# Altium schematic symbol library Schlib1.SchLib: 28 symbols
Pins are listed as number, name and electrical type; pins without a type are passive.

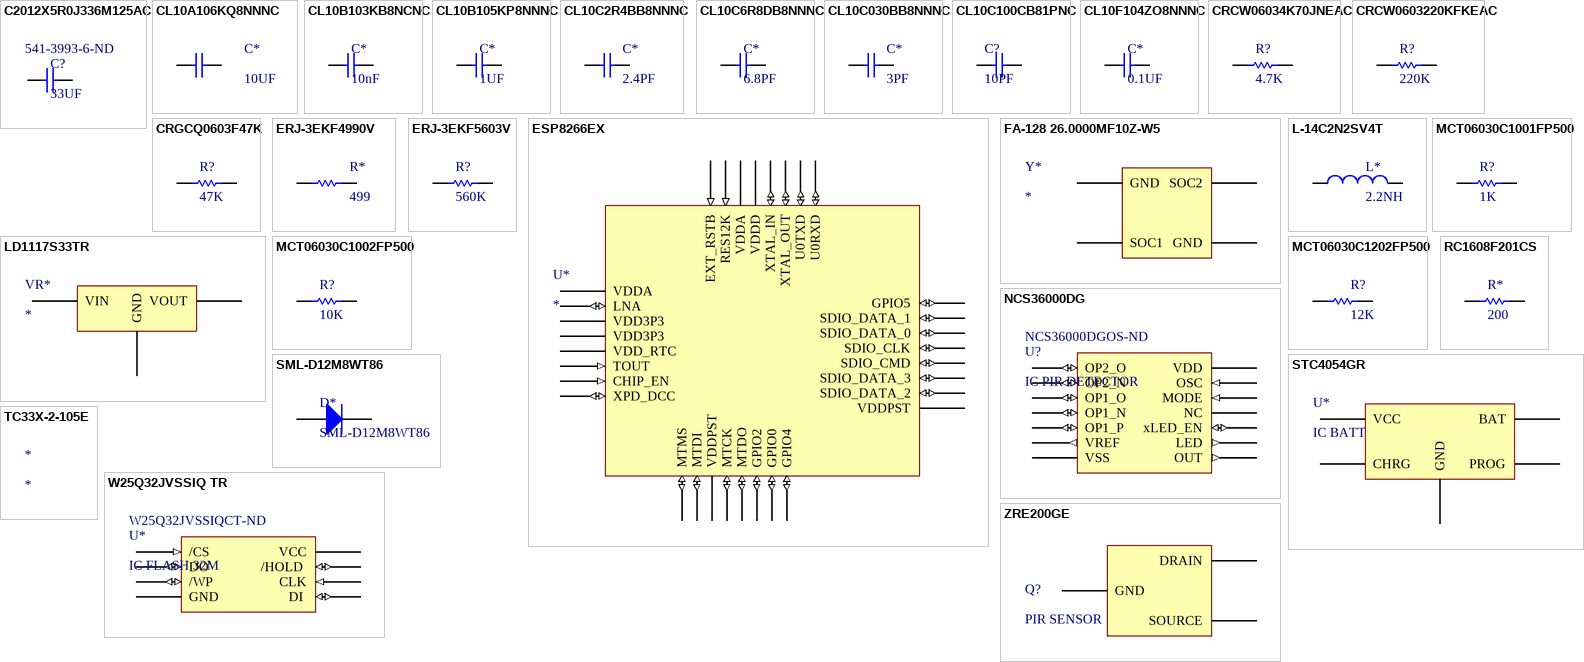
[diagram p0: symbols C2012X5R0J336M125AC to ZRE200GE]

## C2012X5R0J336M125AC
designator C?, comment 33UF  Supplier Part Number 2: 541-3993-6-ND
CAP CER 33UF 6.3V X5R 0805; Manufacturer: TDK Corporation; Manufacturer Part Number: C2012X5R0J336M125AC; Tolerance: ±20%; Notification: Current market demand for these product types have resulted in fluctuating and extending lead times. Lead times may differ.; Supplier 1: Digi-Key; RoHS: RoHS Compliant; Category: Capacitors; Stock 1: 20000; Pricing 1: 1=0.86, 10=0.654, 100=0.4676, 500=0.362, 1000=0.31172 (EUR); Packaging: Digi-Reel®; Part Status: Active; Voltage - Rated: 6.3V; Temperature Coefficient: X5R; Operating Temperature: -55°C ~ 85°C; Features: Low ESL; Ratings: -; Applications: General Purpose; Failure Rate: -; Mounting Type: Surface Mount, MLCC; Package / Case: 0805 (2012 Metric); Size / Dimension: 0.079" L x 0.049" W (2.00mm x 1.25mm); Height - Seated (Max): -; Thickness (Max): 0.057" (1.45mm); Lead Spacing: -; Lead Style: -; ComponentLink1URL: https://product.tdk.com/info/en/catalog/datasheets/mlcc_commercial_general_en.pdf; ComponentLink1Description: https://product.tdk.com/info/en/catalog/datasheets/mlcc_commercial_general_en.pdf; Supplier Part Number 1: 445-5986-6-ND; Supplier 2: Digi-Key
footprint Chip2PinSM127P600-8N-TDK_0603
pins: 1, 2

## CL10A106KQ8NNNC
designator C*, comment 10UF
CAP CER 10UF 6.3V X5R 0603; Manufacturer: Samsung Electro-Mechanics; Manufacturer Part Number: CL10A106KQ8NNNC; Tolerance: ±10%; Notification: Current market demand for these product types have resulted in fluctuating and extending lead times. Lead times may differ.; Supplier 1: Digi-Key; RoHS: RoHS Compliant; Category: Capacitors; Stock 1: 40000; Pricing 1: 1=0.25, 10=0.177, 100=0.1001, 500=0.07064, 1000=0.0618 (EUR); Packaging: Cut Tape (CT); Part Status: Active; Voltage - Rated: 6.3V; Temperature Coefficient: X5R; Operating Temperature: -55°C ~ 85°C; Features: -; Ratings: -; Applications: General Purpose; Mounting Type: Surface Mount, MLCC; Package / Case: 0603 (1608 Metric); Size / Dimension: 0.063" L x 0.031" W (1.60mm x 0.80mm); Height - Seated (Max): -; Thickness (Max): 0.035" (0.90mm); Lead Spacing: -; Lead Style: -; ComponentLink1URL: http://www.samsungsem.com/kr/support/product-search/mlcc/CL10A106KQ8NNNC.jsp; ComponentLink1Description: http://www.samsungsem.com/kr/support/product-search/mlcc/CL10A106KQ8NNNC.jsp; Supplier Part Number 1: 1276-1038-1-ND
footprint Chip2PinSM127P600-8N-SAMSUNG-0603
pins: 1, 2

## CL10B103KB8NCNC
designator C*, comment 10nF
CAP CER 10000PF 50V X7R 0603; Manufacturer: Samsung Electro-Mechanics; Manufacturer Part Number: CL10B103KB8NCNC; Tolerance: ±10%; Supplier 1: Digi-Key; RoHS: RoHS Compliant; Category: Capacitors; Stock 1: 1066876; Pricing 1: 1=0.09, 10=0.029, 100=0.0129, 500=0.00926, 1000=0.00728 (EUR); Packaging: Cut Tape (CT); Part Status: Active; Voltage - Rated: 50V; Temperature Coefficient: X7R; Operating Temperature: -55°C ~ 125°C; Features: -; Ratings: -; Applications: General Purpose; Mounting Type: Surface Mount, MLCC; Package / Case: 0603 (1608 Metric); Size / Dimension: 0.063" L x 0.031" W (1.60mm x 0.80mm); Height - Seated (Max): -; Thickness (Max): 0.035" (0.90mm); Lead Spacing: -; Lead Style: -; ComponentLink1URL: http://www.samsungsem.com/kr/support/product-search/mlcc/CL10B103KB8NCNC.jsp; ComponentLink1Description: http://www.samsungsem.com/kr/support/product-search/mlcc/CL10B103KB8NCNC.jsp; Supplier Part Number 1: 1276-1921-1-ND
footprint Chip2PinSM127P600-8N-SAMSUNG-0603
pins: 1, 2

## CL10B105KP8NNNC
designator C*, comment 1UF
CAP CER 1UF 10V X7R 0603; Manufacturer: Samsung Electro-Mechanics; Manufacturer Part Number: CL10B105KP8NNNC; Tolerance: ±10%; Notification: Current market demand for these product types have resulted in fluctuating and extending lead times. Lead times may differ.; Supplier 1: Digi-Key; RoHS: RoHS Compliant; Category: Capacitors; Stock 1: 40000; Pricing 1: 1=0.08, 10=0.044, 100=0.0197, 500=0.01408, 1000=0.01106 (EUR); Packaging: Cut Tape (CT); Part Status: Active; Voltage - Rated: 10V; Temperature Coefficient: X7R; Operating Temperature: -55°C ~ 125°C; Features: -; Ratings: -; Applications: General Purpose; Mounting Type: Surface Mount, MLCC; Package / Case: 0603 (1608 Metric); Size / Dimension: 0.063" L x 0.031" W (1.60mm x 0.80mm); Height - Seated (Max): -; Thickness (Max): 0.035" (0.90mm); Lead Spacing: -; Lead Style: -; ComponentLink1URL: http://www.samsungsem.com/kr/support/product-search/mlcc/CL10B105KP8NNNC.jsp; ComponentLink1Description: http://www.samsungsem.com/kr/support/product-search/mlcc/CL10B105KP8NNNC.jsp; Supplier Part Number 1: 1276-1946-1-ND
footprint Chip2PinSM127P600-8N-SAMSUNG-0603
pins: 1, 2

## CL10C2R4BB8NNNC
designator C*, comment 2.4PF
CAP CER 2.4PF 50V C0G/NP0 0603; Manufacturer: Samsung Electro-Mechanics; Manufacturer Part Number: CL10C2R4BB8NNNC; Tolerance: ±0.1pF; Temperature Coefficient: C0G, NP0; Notification: Current market demand for these product types have resulted in fluctuating and extending lead times. Lead times may differ.; Supplier 1: Digi-Key; RoHS: RoHS Compliant; Category: Capacitors; Stock 1: 40000; Pricing 1: 1=0.08, 10=0.034, 100=0.0151, 500=0.01074, 1000=0.00844 (EUR); Packaging: Cut Tape (CT); Part Status: Active; Voltage - Rated: 50V; Operating Temperature: -55°C ~ 125°C; Features: -; Ratings: -; Applications: General Purpose; Mounting Type: Surface Mount, MLCC; Package / Case: 0603 (1608 Metric); Size / Dimension: 0.063" L x 0.031" W (1.60mm x 0.80mm); Height - Seated (Max): -; Thickness (Max): 0.035" (0.90mm); Lead Spacing: -; Lead Style: -; ComponentLink1URL: http://www.samsungsem.com/kr/support/product-search/mlcc/CL10C2R4BB8NNNC.jsp; ComponentLink1Description: http://www.samsungsem.com/kr/support/product-search/mlcc/CL10C2R4BB8NNNC.jsp; Supplier Part Number 1: 1276-2254-1-ND
footprint Chip2PinSM127P600-8N-SAMSUNG-0603
pins: 1, 2

## CL10C6R8DB8NNNC
designator C*, comment 6.8PF
CAP CER 6.8PF 50V C0G/NP0 0603; Manufacturer: Samsung Electro-Mechanics; Manufacturer Part Number: CL10C6R8DB8NNNC; Tolerance: ±0.5pF; Temperature Coefficient: C0G, NP0; Notification: Current market demand for these product types have resulted in fluctuating and extending lead times. Lead times may differ.; Supplier 1: Digi-Key; RoHS: RoHS Compliant; Category: Capacitors; Stock 1: 40000; Pricing 1: 1=0.08, 10=0.039, 100=0.0174, 500=0.01244, 1000=0.00978 (EUR); Packaging: Cut Tape (CT); Part Status: Active; Voltage - Rated: 50V; Operating Temperature: -55°C ~ 125°C; Features: -; Ratings: -; Applications: General Purpose; Mounting Type: Surface Mount, MLCC; Package / Case: 0603 (1608 Metric); Size / Dimension: 0.063" L x 0.031" W (1.60mm x 0.80mm); Height - Seated (Max): -; Thickness (Max): 0.035" (0.90mm); Lead Spacing: -; Lead Style: -; ComponentLink1URL: http://www.samsungsem.com/kr/support/product-search/mlcc/CL10C6R8DB8NNNC.jsp; ComponentLink1Description: http://www.samsungsem.com/kr/support/product-search/mlcc/CL10C6R8DB8NNNC.jsp; Supplier Part Number 1: 1276-2334-1-ND
footprint Chip2PinSM127P600-8N-TDK_0603
pins: 1, 2

## CL10C030BB8NNNC
designator C*, comment 3PF
CAP CER 3PF 50V C0G/NP0 0603; Manufacturer: Samsung Electro-Mechanics; Manufacturer Part Number: CL10C030BB8NNNC; Tolerance: ±0.1pF; Temperature Coefficient: C0G, NP0; Notification: Current market demand for these product types have resulted in fluctuating and extending lead times. Lead times may differ.; Supplier 1: Digi-Key; RoHS: RoHS Compliant; Category: Capacitors; Stock 1: 40000; Pricing 1: 1=0.08, 10=0.026, 100=0.0116, 500=0.00826, 1000=0.00649 (EUR); Packaging: Cut Tape (CT); Part Status: Active; Voltage - Rated: 50V; Operating Temperature: -55°C ~ 125°C; Features: -; Ratings: -; Applications: General Purpose; Mounting Type: Surface Mount, MLCC; Package / Case: 0603 (1608 Metric); Size / Dimension: 0.063" L x 0.031" W (1.60mm x 0.80mm); Height - Seated (Max): -; Thickness (Max): 0.035" (0.90mm); Lead Spacing: -; Lead Style: -; ComponentLink1URL: http://www.samsungsem.com/kr/support/product-search/mlcc/CL10C030BB8NNNC.jsp; ComponentLink1Description: http://www.samsungsem.com/kr/support/product-search/mlcc/CL10C030BB8NNNC.jsp; Supplier Part Number 1: 1276-2125-1-ND
footprint Chip2PinSM127P600-8N-TDK_0603
pins: 1, 2

## CL10C100CB81PNC
designator C?, comment 10PF
CAP CER 10PF 50V C0G/NP0 0603; Manufacturer: Samsung Electro-Mechanics; Manufacturer Part Number: CL10C100CB81PNC; Tolerance: ±0.25pF; Temperature Coefficient: C0G, NP0; Supplier 1: Digi-Key; RoHS: RoHS Compliant; Category: Capacitors; Stock 1: 40000; Pricing 1: 1=0.1, 10=0.076, 100=0.0339, 500=0.02424, 1000=0.01904 (EUR); Packaging: Cut Tape (CT); Part Status: Active; Voltage - Rated: 50V; Operating Temperature: -55°C ~ 125°C; Features: -; Ratings: AEC-Q200; Applications: Automotive; Mounting Type: Surface Mount, MLCC; Package / Case: 0603 (1608 Metric); Size / Dimension: 0.063" L x 0.031" W (1.60mm x 0.80mm); Height - Seated (Max): -; Thickness (Max): 0.035" (0.90mm); Lead Spacing: -; Lead Style: -; ComponentLink1URL: http://www.samsungsem.com/kr/support/product-search/mlcc/CL10C100CB81PNC.jsp; ComponentLink1Description: http://www.samsungsem.com/kr/support/product-search/mlcc/CL10C100CB81PNC.jsp; Supplier Part Number 1: 1276-2149-1-ND
footprint Chip2PinSM127P600-8N-SAMSUNG-0603
pins: 1, 2

## CL10F104ZO8NNNC
designator C*, comment 0.1UF
CAP CER 0.1UF 16V Y5V 0603; Manufacturer: Samsung Electro-Mechanics; Manufacturer Part Number: CL10F104ZO8NNNC; Tolerance: -20%, +80%; Temperature Coefficient: Y5V (F); Notification: Current market demand for these product types have resulted in fluctuating and extending lead times. Lead times may differ.; Supplier 1: Digi-Key; RoHS: RoHS Compliant; Category: Capacitors; Stock 1: 40000; Pricing 1: 1=0.08, 10=0.032, 100=0.0144, 500=0.01026, 1000=0.00806 (EUR); Packaging: Cut Tape (CT); Part Status: Active; Voltage - Rated: 16V; Operating Temperature: -30°C ~ 85°C; Features: -; Ratings: -; Applications: General Purpose; Mounting Type: Surface Mount, MLCC; Package / Case: 0603 (1608 Metric); Size / Dimension: 0.063" L x 0.031" W (1.60mm x 0.80mm); Height - Seated (Max): -; Thickness (Max): 0.035" (0.90mm); Lead Spacing: -; Lead Style: -; ComponentLink1URL: http://www.samsungsem.com/kr/support/product-search/mlcc/CL10F104ZO8NNNC.jsp; ComponentLink1Description: http://www.samsungsem.com/kr/support/product-search/mlcc/CL10F104ZO8NNNC.jsp; Supplier Part Number 1: 1276-1258-1-ND
footprint Chip2PinSM127P600-8N-SAMSUNG-0603
pins: 1, 2

## CRCW06034K70JNEAC
designator R?, comment 4.7K
RES SMD 4.7K OHM 5% 1/10W 0603; Manufacturer: Vishay Dale; Manufacturer Part Number: CRCW06034K70JNEAC; Power (Watts): 0.1W, 1/10W; Temperature Coefficient: ±200ppm/°C; Supplier 1: Digi-Key; RoHS: RoHS Compliant; Category: Resistors; Stock 1: 819006; Pricing 1: 1=0.09, 10=0.019, 100=0.008, 1000=0.00357, 2500=0.0031 (EUR); Packaging: Digi-Reel®; Part Status: Active; Tolerance: ±5%; Composition: Thick Film; Features: -; Operating Temperature: -55°C ~ 155°C; Package / Case: 0603 (1608 Metric); Supplier Device Package: 0603; Height - Seated (Max): 0.022" (0.55mm); Failure Rate: -; ComponentLink1URL: http://www.vishay.com/docs/28773/crcwce3.pdf; ComponentLink1Description: http://www.vishay.com/docs/28773/crcwce3.pdf; Supplier Part Number 1: 541-3993-6-ND
footprint Chip2PinSM127P600-8N-vishay-0603
pins: 1, 2

## CRCW0603220KFKEAC
designator R?, comment 220K
RES SMD 220K OHM 1% 1/10W 0603; Manufacturer: Vishay Dale; Manufacturer Part Number: CRCW0603220KFKEAC; Power (Watts): 0.1W, 1/10W; Temperature Coefficient: ±100ppm/°C; Supplier 1: Digi-Key; RoHS: RoHS Compliant; Category: Resistors; Stock 1: 154470; Pricing 1: 1=0.09, 10=0.026, 100=0.0108, 1000=0.00484, 2500=0.0042 (EUR); Packaging: Cut Tape (CT); Part Status: Active; Tolerance: ±1%; Composition: Thick Film; Features: -; Operating Temperature: -55°C ~ 155°C; Package / Case: 0603 (1608 Metric); Supplier Device Package: 0603; Height - Seated (Max): 0.022" (0.55mm); Failure Rate: -; ComponentLink1URL: http://www.vishay.com/docs/28773/crcwce3.pdf; ComponentLink1Description: http://www.vishay.com/docs/28773/crcwce3.pdf; Supplier Part Number 1: 541-4039-1-ND
footprint Chip2PinSM127P600-8N-vishay-0603
pins: 1, 2

## CRGCQ0603F47K
designator R?, comment 47K
CRGCQ 0603 47K 1%; Manufacturer: TE Connectivity Passive Product; Manufacturer Part Number: CRGCQ0603F47K; Power (Watts): 0.1W, 1/10W; Temperature Coefficient: ±100ppm/°C; Supplier 1: Digi-Key; RoHS: RoHS Compliant; Category: Resistors; Stock 1: 50; Pricing 1: 1=0.09, 10=0.026, 100=0.0106, 1000=0.00474, 2500=0.00411 (EUR); Packaging: Cut Tape (CT); Part Status: Active; Tolerance: ±1%; Composition: Thick Film; Features: Automotive AEC-Q200, Moisture Resistant; Operating Temperature: -55°C ~ 155°C; Package / Case: 0603 (1608 Metric); Supplier Device Package: 0603; Size / Dimension: 0.063" L x 0.031" W (1.60mm x 0.80mm); Height - Seated (Max): 0.022" (0.55mm); Failure Rate: -; ComponentLink1URL: https://www.te.com/commerce/DocumentDelivery/DDEController?Action=srchrtrv&DocNm=1773204-3&DocType=DS&DocLang=English; ComponentLink1Description: https://www.te.com/commerce/DocumentDelivery/DDEController?Action=srchrtrv&DocNm=1773204-3&DocType=DS&DocLang=English; Supplier Part Number 1: A129708CT-ND
footprint Chip2PinSM127P600-8N-0603-te
pins: 1, 2

## ERJ-3EKF4990V
designator R*, comment 499
RES SMD 499 OHM 1% 1/10W 0603; Manufacturer: Panasonic Electronic Components; Manufacturer Part Number: ERJ-3EKF4990V; Power (Watts): 0.1W, 1/10W; Temperature Coefficient: ±100ppm/°C; Supplier 1: Digi-Key; RoHS: RoHS Compliant; Category: Resistors; Stock 1: 1504774; Pricing 1: 1=0.08, 10=0.054, 100=0.0221, 1000=0.00994, 2500=0.00862 (EUR); Packaging: Cut Tape (CT); Part Status: Active; Tolerance: ±1%; Composition: Thick Film; Features: Automotive AEC-Q200; Operating Temperature: -55°C ~ 155°C; Package / Case: 0603 (1608 Metric); Supplier Device Package: 0603; Size / Dimension: 0.063" L x 0.032" W (1.60mm x 0.80mm); Height - Seated (Max): 0.022" (0.55mm); Failure Rate: -; ComponentLink1URL: https://industrial.panasonic.com/cdbs/www-data/pdf/RDA0000/AOA0000C304.pdf; ComponentLink1Description: https://industrial.panasonic.com/cdbs/www-data/pdf/RDA0000/AOA0000C304.pdf; Supplier Part Number 1: P499HCT-ND
footprint Chip2PinSM127P600-8N-Stackpole-0603
pins: 1, 2

## ERJ-3EKF5603V
designator R?, comment 560K
RES SMD 560K OHM 1% 1/10W 0603; Manufacturer: Panasonic Electronic Components; Manufacturer Part Number: ERJ-3EKF5603V; Power (Watts): 0.1W, 1/10W; Temperature Coefficient: ±100ppm/°C; Supplier 1: Digi-Key; RoHS: RoHS Compliant; Category: Resistors; Stock 1: 221508; Pricing 1: 1=0.09, 10=0.057, 100=0.0231, 1000=0.01037, 2500=0.009 (EUR); Packaging: Cut Tape (CT); Part Status: Active; Tolerance: ±1%; Composition: Thick Film; Features: Automotive AEC-Q200; Operating Temperature: -55°C ~ 155°C; Package / Case: 0603 (1608 Metric); Supplier Device Package: 0603; Size / Dimension: 0.063" L x 0.032" W (1.60mm x 0.80mm); Height - Seated (Max): 0.022" (0.55mm); Failure Rate: -; ComponentLink1URL: https://industrial.panasonic.com/cdbs/www-data/pdf/RDA0000/AOA0000C304.pdf; ComponentLink1Description: https://industrial.panasonic.com/cdbs/www-data/pdf/RDA0000/AOA0000C304.pdf; Supplier Part Number 1: P560KHCT-ND
footprint Chip2PinSM127P600-8N-Stackpole-0603
pins: 1, 2

## ESP8266EX
designator U*
SMD IC ESP8266EX, QFN32-PIN, 5_5; Manufacturer: Espressif Systems; RF Family/Standard: WiFi; Protocol: 802.11b/g/n; Frequency: 2.4GHz; Data Rate (Max): 54Mbps; Power - Output: 20dBm; Sensitivity: -91dBm; Serial Interfaces: I²C, I²S, SPI, UART; Voltage - Supply: 2.5 V ~ 3.6 V; Current - Receiving: 50mA ~ 56mA; Current - Transmitting: 120mA ~ 170mA; Supplier 1: Digi-Key; Manufacturer Part Number: ESP8266EX; RoHS: RoHS Compliant; Category: RF/IF and RFID; Stock 1: 2122; Pricing 1: 1=2.49, 10=2.222, 25=2, 100=1.8223, 250=1.64452, 500=1.47562 (EUR); Packaging: Cut Tape (CT); Part Status: Active; Type: TxRx + MCU; Modulation: -; Memory Size: -; Package / Case: 32-VFQFN Exposed Pad; ComponentLink1URL: https://espressif.com/sites/default/files/documentation/0a-esp8266ex_datasheet_en.pdf; ComponentLink1Description: https://espressif.com/sites/default/files/documentation/0a-esp8266ex_datasheet_en.pdf; Supplier Part Number 1: 1904-1001-1-ND
footprint QFN127P600-8N (ESP8266)
pins: 1 VDDA (power), 2 LNA (io), 3 VDD3P3 (power), 4 VDD3P3 (power), 5 VDD_RTC (power), 6 TOUT (in), 7 CHIP_EN (in), 8 XPD_DCC (io), 9 MTMS (io), 10 MTDI (io), 11 VDDPST (power), 12 MTCK (io), 13 MTDO (io), 14 GPIO2 (io), 15 GPIO0 (io), 16 GPIO4 (io), 17 VDDPST (power), 18 SDIO_DATA_2 (io), 19 SDIO_DATA_3 (io), 20 SDIO_CMD (io), 21 SDIO_CLK (io), 22 SDIO_DATA_0 (io), 23 SDIO_DATA_1 (io), 24 GPIO5 (io), 25 U0RXD (io), 26 U0TXD (io), 27 XTAL_OUT (io), 28 XTAL_IN (io), 29 VDDD (power), 30 VDDA (power), 31 RES12K (in), 32 EXT_RSTB (in)

## FA-128 26.0000MF10Z-W5
designator Y*
CRYSTAL 26.0000MHZ 12PF SMD; Manufacturer: EPSON; Manufacturer Part Number: FA-128 26.0000MF10Z-W5; Frequency Stability: ±10ppm; Operating Mode: Fundamental; Supplier 1: Digi-Key; RoHS: RoHS Compliant; Category: Crystals, Oscillators, Resonators; Stock 1: 200409; Pricing 1: 1=0.5, 10=0.419, 50=0.3772, 100=0.3353, 500=0.3185, 1000=0.2682 (EUR); Packaging: Cut Tape (CT); Part Status: Active; Type: MHz Crystal; Frequency Tolerance: ±10ppm; Load Capacitance: 12pF; Operating Temperature: -20°C ~ 75°C; Ratings: -; Mounting Type: Surface Mount; Package / Case: 4-SMD, No Lead; Size / Dimension: 0.079" L x 0.063" W (2.00mm x 1.60mm); Height - Seated (Max): 0.020" (0.50mm); ComponentLink1URL: https://support.epson.biz/td/api/doc_check.php?dl=brief_FA-128&lang=en; ComponentLink1Description: https://support.epson.biz/td/api/doc_check.php?dl=brief_FA-128&lang=en; Supplier Part Number 1: SER4186CT-ND
footprint PCBComponent_1
pins: 1 SOC1 (power), 2 GND (power), 3 SOC2, 4 GND

## L-14C2N2SV4T
designator L*, comment 2.2NH
FIXED IND 2.2NH 300MA 150 MOHM; Manufacturer: Johanson Technology Inc.; Manufacturer Part Number: L-14C2N2SV4T; Material - Core: Ceramic; Tolerance: ±0.3nH; Shielding: Unshielded; DC Resistance (DCR): 150 mOhm Max; Q @ Freq: 8 @ 100MHz; Frequency - Self Resonant: 12GHz; Supplier 1: Digi-Key; RoHS: RoHS Compliant; Category: Inductors, Coils, Chokes; Stock 1: 17153; Pricing 1: 1=0.08, 10=0.052, 100=0.0348, 500=0.02898, 1000=0.02434 (EUR); Packaging: Cut Tape (CT); Part Status: Active; Type: Multilayer; Current - Saturation: -; Ratings: -; Operating Temperature: -40°C ~ 100°C; Mounting Type: Surface Mount; Package / Case: 0603 (1608 Metric); Supplier Device Package: 0603 (1608 Metric); Size / Dimension: 0.063" L x 0.031" W (1.60mm x 0.80mm); Height - Seated (Max): 0.037" (0.95mm); ComponentLink1URL: https://media.digikey.com/pdf/Data%20Sheets/Johanson%20Technology/RF_Ceramic_Chip_Inductors.pdf; ComponentLink1Description: https://media.digikey.com/pdf/Data%20Sheets/Johanson%20Technology/RF_Ceramic_Chip_Inductors.pdf; Supplier Part Number 1: 712-1427-1-ND
footprint Chip2PinSM127P600-8N-SAMSUNG-0603
pins: 1, 2

## LD1117S33TR
designator VR*
IC REG LINEAR 3.3V 800MA SOT223; Manufacturer: STMicroelectronics; Manufacturer Part Number: LD1117S33TR; Output Configuration: Positive; Output Type: Fixed; Voltage - Input (Max): 15V; Voltage Dropout (Max): 1.2V @ 800mA; PSRR: 75dB (120Hz); Protection Features: Over Current, Over Temperature; Supplier 1: Digi-Key; RoHS: RoHS Compliant; Category: Integrated Circuits (ICs); Stock 1: 10; Pricing 1: 1=0.37, 10=0.316, 100=0.2358, 500=0.18526, 1000=0.14317 (EUR); Packaging: Cut Tape (CT); Part Status: Active; Voltage - Output (Min/Fixed): 3.3V; Voltage - Output (Max): -; Current - Output: 800mA; Control Features: -; Operating Temperature: 0°C ~ 125°C; Mounting Type: Surface Mount; Package / Case: TO-261-4, TO-261AA; Supplier Device Package: SOT-223; Base Part Number: LD1117; ComponentLink1URL: http://www.st.com/content/ccc/resource/technical/document/datasheet/99/3b/7d/91/91/51/4b/be/CD00000544.pdf/files/CD00000544.pdf/jcr:content/translations/en.CD00000544.pdf; ComponentLink1Description: http://www.st.com/content/ccc/resource/technical/document/datasheet/99/3b/7d/91/91/51/4b/be/CD00000544.pdf/files/CD00000544.pdf/jcr:content/translations/en.CD00000544.pdf; Supplier Part Number 1: 497-1242-1-ND
footprint SOT230P700X180-4N_ST (SOT223, 4-Leads, Body 6.40x7.00mm (avg), Pitch 2.30mm, IPC Medium Density)
pins: 1 GND (power), 2 VOUT (power), 3 VIN (power)

## MCT06030C1001FP500
designator R?, comment 1K
RES SMD 1K OHM 1% 1/8W 0603; Manufacturer: Vishay Beyschlag; Manufacturer Part Number: MCT06030C1001FP500; Power (Watts): 0.125W, 1/8W; Temperature Coefficient: ±50ppm/°C; Supplier 1: Digi-Key; RoHS: RoHS Compliant; Category: Resistors; Stock 1: 193422; Pricing 1: 1=0.16, 10=0.133, 100=0.0521, 1000=0.02182, 2500=0.02 (EUR); Packaging: Cut Tape (CT); Part Status: Active; Tolerance: ±1%; Composition: Thin Film; Features: Anti-Sulfur; Operating Temperature: -55°C ~ 155°C; Package / Case: 0603 (1608 Metric); Supplier Device Package: 0603; Size / Dimension: 0.061" L x 0.033" W (1.55mm x 0.85mm); Height - Seated (Max): 0.022" (0.55mm); Failure Rate: -; ComponentLink1URL: http://www.vishay.com/docs/28705/mcx0x0xpro.pdf; ComponentLink1Description: http://www.vishay.com/docs/28705/mcx0x0xpro.pdf; Supplier Part Number 1: MCT0603-1.00K-CFCT-ND
footprint Chip2PinSM127P600-8N-vishay-0603
pins: 1, 2

## MCT06030C1002FP500
designator R?, comment 10K
RES SMD 10K OHM 1% 1/8W 0603; Manufacturer: Vishay Beyschlag; Manufacturer Part Number: MCT06030C1002FP500; Power (Watts): 0.125W, 1/8W; Temperature Coefficient: ±50ppm/°C; Supplier 1: Digi-Key; RoHS: RoHS Compliant; Category: Resistors; Stock 1: 1201929; Pricing 1: 1=0.16, 10=0.133, 100=0.0521, 1000=0.02182, 2500=0.02 (EUR); Packaging: Cut Tape (CT); Part Status: Active; Tolerance: ±1%; Composition: Thin Film; Features: Anti-Sulfur; Operating Temperature: -55°C ~ 155°C; Package / Case: 0603 (1608 Metric); Supplier Device Package: 0603; Size / Dimension: 0.061" L x 0.033" W (1.55mm x 0.85mm); Height - Seated (Max): 0.022" (0.55mm); Failure Rate: -; ComponentLink1URL: http://www.vishay.com/docs/28705/mcx0x0xpro.pdf; ComponentLink1Description: http://www.vishay.com/docs/28705/mcx0x0xpro.pdf; Supplier Part Number 1: MCT0603-10.0K-CFCT-ND
footprint Chip2PinSM127P600-8N-vishay-0603
pins: 1, 2

## MCT06030C1202FP500
designator R?, comment 12K
RES SMD 12K OHM 1% 1/8W 0603; Manufacturer: Vishay Beyschlag; Manufacturer Part Number: MCT06030C1202FP500; Power (Watts): 0.125W, 1/8W; Temperature Coefficient: ±50ppm/°C; Supplier 1: Digi-Key; RoHS: RoHS Compliant; Category: Resistors; Stock 1: 45365; Pricing 1: 1=0.15, 10=0.129, 100=0.0505, 1000=0.02112, 2500=0.01936 (EUR); Packaging: Cut Tape (CT); Part Status: Active; Tolerance: ±1%; Composition: Thin Film; Features: Anti-Sulfur; Operating Temperature: -55°C ~ 155°C; Package / Case: 0603 (1608 Metric); Supplier Device Package: 0603; Size / Dimension: 0.061" L x 0.033" W (1.55mm x 0.85mm); Height - Seated (Max): 0.022" (0.55mm); Failure Rate: -; ComponentLink1URL: http://www.vishay.com/docs/28705/mcx0x0xpro.pdf; ComponentLink1Description: http://www.vishay.com/docs/28705/mcx0x0xpro.pdf; Supplier Part Number 1: MCT0603-12.0K-CFCT-ND
footprint Chip2PinSM127P600-8N-vishay-0603
pins: 1, 2

## NCS36000DG
designator U?, comment IC PIR DETECTOR  Supplier Part Number 1: NCS36000DGOS-ND
IC PIR DETECTOR CTLR 14SOIC; Manufacturer: ON Semiconductor; Manufacturer Part Number: NCS36000DG; Input Type: Digital; Interface: CMOS; Supplier 1: Digi-Key; RoHS: RoHS Compliant; Category: Integrated Circuits (ICs); Stock 1: 566; Pricing 1: 1=0.75, 55=0.63655, 110=0.52291, 550=0.43195, 1045=0.34101 (EUR); Packaging: Tray; Part Status: Active; Type: Detector Controller; Output Type: Digital; Operating Temperature: -40°C ~ 85°C; Mounting Type: Surface Mount; Package / Case: 14-SOIC (0.154", 3.90mm Width); Supplier Device Package: 14-SOIC; Base Part Number: NCS36000; ComponentLink1URL: http://www.onsemi.com/pub/Collateral/NCS36000-D.PDF; ComponentLink1Description: http://www.onsemi.com/pub/Collateral/NCS36000-D.PDF
footprint SOIC127P600-8N-PIRIC_NCS36000
pins: 1 OP2_O (io), 2 OP2_N (io), 3 OP1_O (io), 4 OP1_N (io), 5 OP1_P (io), 6 VREF (out), 7 VSS (power), 8 OUT (out), 9 LED (out), 10 xLED_EN (io), 11 NC, 12 MODE (in), 13 OSC (in), 14 VDD (power)

## RC1608F201CS
designator R*, comment 200
RES SMD 200 OHM 1% 1/10W 0603; Manufacturer: Samsung Electro-Mechanics; Manufacturer Part Number: RC1608F201CS; Power (Watts): 0.1W, 1/10W; Temperature Coefficient: ±100ppm/°C; Supplier 1: Digi-Key; RoHS: RoHS Compliant; Category: Resistors; Stock 1: 235074; Pricing 1: 1=0.08, 10=0.028, 100=0.0115, 1000=0.00516, 2500=0.00448 (EUR); Packaging: Cut Tape (CT); Part Status: Active; Tolerance: ±1%; Composition: Thick Film; Features: Moisture Resistant; Operating Temperature: -55°C ~ 155°C; Package / Case: 0603 (1608 Metric); Supplier Device Package: 0603; Size / Dimension: 0.063" L x 0.032" W (1.60mm x 0.80mm); Height - Seated (Max): 0.022" (0.55mm); Failure Rate: -; ComponentLink1URL: http://www.samsungsem.com/kr/support/product-search/chip-resistor/RC1608F201CS.jsp; ComponentLink1Description: http://www.samsungsem.com/kr/support/product-search/chip-resistor/RC1608F201CS.jsp; Supplier Part Number 1: 1276-4584-1-ND
footprint Chip2PinSM127P600-8N-SAMSUNG-0603
pins: 1, 2

## SML-D12M8WT86
designator D*
LED GREEN DIFFUSED 0603 SMD; Manufacturer: Rohm Semiconductor; Configuration: Standard; Lens Color: White; Millicandela Rating: 25mcd; Lens Style: Rectangle with Flat Top; Lens Size: 1.20mm x 0.80mm; Voltage - Forward (Vf) (Typ): 2.2V; Current - Test: 20mA; Wavelength - Dominant: 572nm; Supplier 1: Digi-Key; Manufacturer Part Number: SML-D12M8WT86; RoHS: RoHS Compliant; Category: Optoelectronics; Stock 1: 315568; Pricing 1: 1=0.3, 10=0.219, 25=0.1616, 100=0.1154, 250=0.07848, 500=0.06926, 1000=0.05425 (EUR); Packaging: Cut Tape (CT); Part Status: Active; Color: Green; Lens Transparency: Diffused; Viewing Angle: -; Mounting Type: Surface Mount; Wavelength - Peak: -; Features: -; Package / Case: 0603 (1608 Metric); Supplier Device Package: 0603 (1608 Metric); Size / Dimension: 1.60mm L x 0.80mm W; Height (Max): 0.65mm; Base Part Number: SML-D12; ComponentLink1URL: https://www.rohm.com/datasheet/SML-D12V8W; ComponentLink1Description: https://www.rohm.com/datasheet/SML-D12V8W
footprint LED_0603_ROHM
pins: 1 A, 2 K

## STC4054GR
designator U*, comment IC BATT
IC BATT CHRGR 800MA TSOT23-5; Manufacturer: STMicroelectronics; Manufacturer Part Number: STC4054GR; Battery Chemistry: Lithium-Ion; Number of Cells: 1; Current - Charging: Constant - Programmable; Programmable Features: Current; Battery Pack Voltage: 4.2V; Voltage - Supply (Max): 6.5V; Supplier 1: Digi-Key; RoHS: RoHS Compliant; Category: Integrated Circuits (ICs); Stock 1: 11621; Pricing 1: 1=1.35, 10=1.208, 100=0.9707, 500=0.7975, 1000=0.66079 (EUR); Packaging: Digi-Reel®; Part Status: Active; Fault Protection: -; Charge Current - Max: 800mA; Interface: -; Operating Temperature: -40°C ~ 85°C (TA); Package / Case: SOT-23-5 Thin, TSOT-23-5; Supplier Device Package: TSOT-23-5; Base Part Number: STC4054; ComponentLink1URL: http://www.st.com/content/ccc/resource/technical/document/datasheet/df/b9/e6/5b/ec/92/45/ed/CD00132951.pdf/files/CD00132951.pdf/jcr:content/translations/en.CD00132951.pdf; ComponentLink1Description: http://www.st.com/content/ccc/resource/technical/document/datasheet/df/b9/e6/5b/ec/92/45/ed/CD00132951.pdf/files/CD00132951.pdf/jcr:content/translations/en.CD00132951.pdf; Supplier Part Number 1: 497-5809-6-ND
footprint SOT23127P600-8N-STC4054
pins: 1 CHRG (power), 2 GND (power), 3 BAT (power), 4 VCC (power), 5 PROG (power)

## TC33X-2-105E
designator *
TRIMMER 1M OHM 0.1W J LEAD TOP; Manufacturer: Bourns Inc.; Manufacturer Part Number: TC33X-2-105E; Power (Watts): 0.1W, 1/10W; Tolerance: ±25%; Temperature Coefficient: ±250ppm/°C; Adjustment Type: Top Adjustment; Resistive Material: Cermet; Supplier 1: Digi-Key; RoHS: RoHS Compliant; Category: Potentiometers, Variable Resistors; Stock 1: 32075; Pricing 1: 1=0.24, 10=0.242, 25=0.2188, 50=0.2088, 100=0.202, 250=0.18852, 500=0.1717, 1000=0.15486 (EUR); Packaging: Cut Tape (CT); Part Status: Active; Mounting Type: Surface Mount; Termination Style: J Lead; Size / Dimension: Rectangular - 0.150" x 0.142" Face x 0.047" H (3.80mm x 3.60mm x 1.20mm); ComponentLink1URL: https://www.bourns.com/docs/Product-Datasheets/TC33.pdf; ComponentLink1Description: https://www.bourns.com/docs/Product-Datasheets/TC33.pdf

## W25Q32JVSSIQ TR
designator U*, comment IC FLASH 32M  Supplier Part Number 1: W25Q32JVSSIQCT-ND
IC FLASH 32M SPI 133MHZ 8SOIC; Manufacturer: Winbond Electronics; Manufacturer Part Number: W25Q32JVSSIQ TR; Memory Type: Non-Volatile; Memory Size: 32Mb (4M x 8); Write Cycle Time - Word, Page: 3ms; Memory Interface: SPI - Quad I/O; Voltage - Supply: 2.7 V ~ 3.6 V; Supplier 1: Digi-Key; RoHS: RoHS Compliant; Category: Integrated Circuits (ICs); Stock 1: 102739; Pricing 1: 1=0.83, 10=0.753, 25=0.7428, 50=0.739, 100=0.6606, 250=0.65488, 500=0.64536, 750=0.63545, 1000=0.62208 (EUR); Packaging: Cut Tape (CT); Part Status: Active; Memory Format: FLASH; Technology: FLASH - NOR; Operating Temperature: -40°C ~ 85°C (TA); Mounting Type: Surface Mount; Package / Case: 8-SOIC (0.209", 5.30mm Width); Supplier Device Package: 8-SOIC; ComponentLink1URL: http://www.winbond.com/resource-files/w25q32jv%20revg%2003272018%20plus.pdf; ComponentLink1Description: http://www.winbond.com/resource-files/w25q32jv%20revg%2003272018%20plus.pdf
footprint SOIC127P600-8N-208
pins: 1 /CS (in), 2 DO (io), 3 /WP  (io), 4 GND (power), 5 DI  (io), 6 CLK (in), 7 /HOLD  (io), 8 VCC (power)

## ZRE200GE
designator Q?, comment PIR SENSOR
ZMOTION PIR SENSOR DUAL ELEMENT; Manufacturer: Zilog; Manufacturer Part Number: ZRE200GE; Sensor Type: Motion, Pyroelectric, PIR (Passive Infrared); Voltage - Supply: 2.7 V ~ 3.3 V; Supplier 1: Digi-Key; RoHS: RoHS Compliant; Category: Sensors, Transducers; Stock 1: 17731; Pricing 1: 1=2.02, 25=1.3096, 100=1.0913 (EUR); Part Status: Active; Sensing Distance: -; Output Type: -; Trigger Type: -; Features: Motion Sensing; Package / Case: TO-5-3 Lens Top Metal Can; Operating Temperature: -30°C ~ 70°C; ComponentLink1URL: http://www.zilog.com/docs/PS0336.pdf; ComponentLink1Description: http://www.zilog.com/docs/PS0336.pdf; Supplier Part Number 1: 269-4955-ND
pins: 1 DRAIN, 2 SOURCE, 3 GND (power)